# Altium schematic symbol library Manu.SchLib: 66 symbols
Pins are listed as number, name and electrical type; pins without a type are passive.

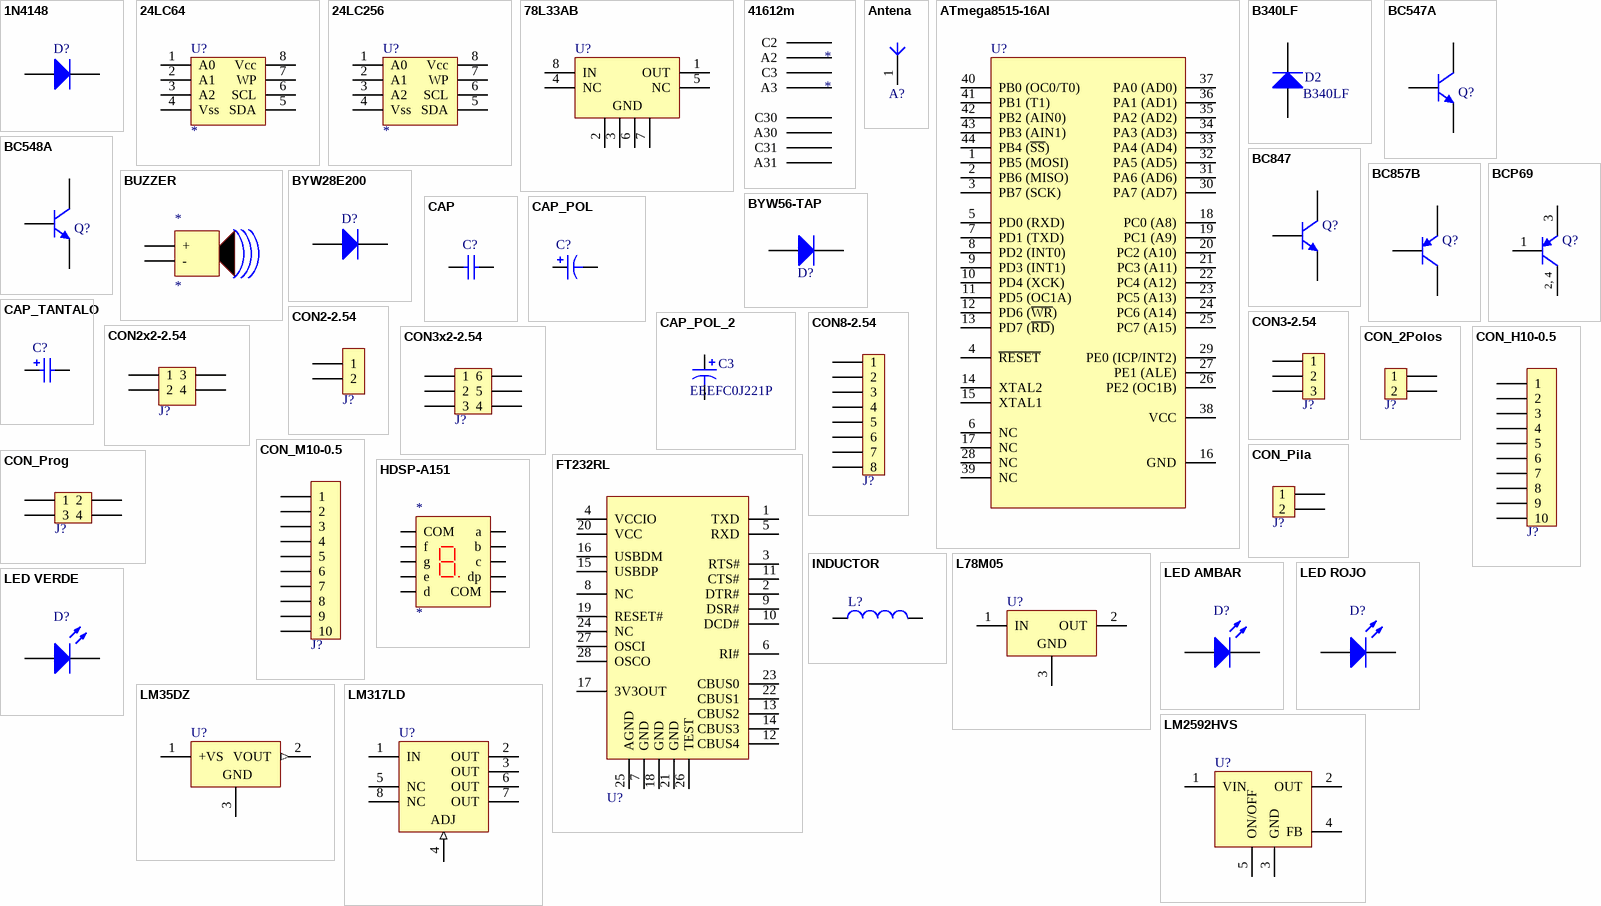
[diagram p0: symbols 1N4148 to LM2592HVS]

## 1N4148
designator D?
High Conductance Fast Diode
simulation model 1N4148 (DIODE)
signal-integrity model 1N4148
footprint DIODO_SMC (Magnetic-Core Inductor with Winding Polarity Marking; 2 Leads)
footprint DO-35 (Diode, Axial; Body 3.8 x 1.9 mm (LxDia. max), Lead Dia. 0.53 mm (max))
footprint Diodo1206 (Tamaño con polaridad 1206)
pins: 1 A, 2 K

## 24LC64
designator U?
24LC64-Memoria I2C Eeprom
footprint soic8
3D model 8SOIC (PCB3D Model)
footprint DFN (8 Patillas)
pins: 1 A0, 2 A1, 3 A2, 4 Vss (power), 5 SDA, 6 SCL, 7 WP, 8 Vcc (power)
1 alternate drawing of the same symbol

## 24LC256
designator U?
24LC256-Memoria I2C Eeprom
3D model 8SOIC (PCB3D Model)
footprint SOIC8 (SOIC, 8-Leads, Body 4.9x3.9mm, Pitch 1.27mm, IPC Medium Density)
pins: 1 A0, 2 A1, 3 A2, 4 Vss (power), 5 SDA, 6 SCL, 7 WP, 8 Vcc (power)
1 alternate drawing of the same symbol

## 78L33AB
designator U?
Positive Voltage Regulator; PackageReference: SO8; PackageDescription: 8-Pin Small Outline Integrated Circuit 1.27 mm Pitch
footprint SOIC8 (SOIC, 8-Leads, Body 4.9x3.9mm, Pitch 1.27mm, IPC Medium Density)
3D model 8SOIC (PCB3D Model)
pins: 1 OUT (power), 2 GND (power), 3 GND (power), 4 NC, 5 NC, 6 GND (power), 7 GND (power), 8 IN (power)

## 41612m
designator *
footprint 41612M_41612M(Primary)
pins: A2, A3, A30, A31, C2, C3, C30, C31

## Antena
designator A?
Antena dielectrica; Published: 8-Jun-2000; LatestRevisionDate: 17-Jul-2002; LatestRevisionNote: Re-released for DXP Platform.; PackageReference: R38; Publisher: Altium Limited
footprint Antena Dielectrica
footprint Antena_PCB (Antena en Pcb)
pins: 1 OSC1

## ATmega8515-16AI
designator U?
8-Bit AVR Microcontroller with 8K Bytes of In-System Programmable Flash Memory; Published: 17-Sep-2003; LatestRevisionDate: 13-Apr-2006; LatestRevisionNote: IPC-7351 Footprint Added.; DatasheetVersion: 2512B-AVR-09/02; PackageVersion: rev.B, Oct-2001; PackageReference: 44A; Publisher: Altium Limited; PackageDescription: 44-Pin Thin Quad Flat Pack 0.8 mm Pitch; ComponentLink1Description: Manufacturer Link; ComponentLink1URL: http://www.atmel.com; ComponentLink2Description: Datasheet; ComponentLink2URL: http://www.atmel.com/dyn/resources/prod_documents/doc2512.pdf
3D model ATMEGA8515-44 (PCB3D Model)
footprint TQFP44 (Thin QFP, 44-Leads, Body 10x10mm, Pitch 0.8mm, IPC High Density)
pins: 1 PB5 (MOSI), 2 PB6 (MISO), 3 PB7 (SCK), 4 ~{RESET}, 5 PD0 (RXD), 6 NC, 7 PD1 (TXD), 8 PD2 (INT0), 9 PD3 (INT1), 10 PD4 (XCK), 11 PD5 (OC1A), 12 PD6 (~{WR}), 13 PD7 (~{RD}), 14 XTAL2, 15 XTAL1, 16 GND, 17 NC, 18 PC0 (A8), 19 PC1 (A9), 20 PC2 (A10), 21 PC3 (A11), 22 PC4 (A12), 23 PC5 (A13), 24 PC6 (A14), 25 PC7 (A15), 26 PE2 (OC1B), 27 PE1 (ALE), 28 NC, 29 PE0 (ICP/INT2), 30 PA7 (AD7), 31 PA6 (AD6), 32 PA5 (AD5), 33 PA4 (AD4), 34 PA3 (AD3), 35 PA2 (AD2), 36 PA1 (AD1), 37 PA0 (AD0), 38 VCC, 39 NC, 40 PB0 (OC0/T0), 41 PB1 (T1), 42 PB2 (AIN0), 43 PB3 (AIN1), 44 PB4 (~{SS})

## B340LF
designator D2
3D model DO214_SMA (PCB3D Model)
footprint B340LF
pins: 1 A, 2 K

## BC547A
designator Q?
Amplifier Transistor NPN Silicon
footprint 29-04 (TO, Flat Index; 3 In-Line, Axial Leads; Body Dia. 4.8mm; Leads 0.48 x 0.5 mm (max))
pins: 1 C, 2 B, 3 E

## BC548A
designator Q?
Amplifier Transistor NPN Silicon
footprint 29-04 (TO, Flat Index; 3 In-Line, Axial Leads; Body Dia. 4.8mm; Leads 0.48 x 0.5 mm (max))
pins: 1 C, 2 B, 3 E

## BC847
designator Q?
NPN General-purpose Transistor; Published: 17-Sep-2003; DatasheetVersion: 4-Feb-2002; PackageVersion: May-1999; PackageReference: SOT23; Publisher: Altium Limited; PackageDescription: SOT-23; 3 Leads; Body 3.0 x 2.5 mm, inc. leads (LxW max); ComponentLink1Description: Manufacturer Link; ComponentLink1URL: http://www.semiconductors.philips.com/; ComponentLink2Description: Datasheet; ComponentLink2URL: http://www.semiconductors.philips.com/acrobat/datasheets/BC846_BC847_BC848_5.pdf
footprint SOT23 (SOT-23; 3 Leads; Body 3.1 x 2.5 mm, inc. leads (LxW max), Alternate Lead Configuration)
pins: 1 B, 2 E, 3 C

## BC857B
designator Q?
PNP General-purpose Transistor; Published: 17-Sep-2003; DatasheetVersion: 4-Feb-2002; PackageVersion: May-1999; PackageReference: SOT23; Publisher: Altium Limited; PackageDescription: SOT-23; 3 Leads; Body 3.0 x 2.5 mm, inc. leads (LxW max); ComponentLink1Description: Manufacturer Link; ComponentLink1URL: http://www.semiconductors.philips.com/; ComponentLink2Description: Datasheet; ComponentLink2URL: http://www.semiconductors.philips.com/acrobat/datasheets/BC856_BC857_BC858_6.pdf
simulation model QBC857B (PNP)
signal-integrity model BC857B
footprint SOT23 (SOT-23; 3 Leads; Body 3.1 x 2.5 mm, inc. leads (LxW max), Alternate Lead Configuration)
pins: 1 B, 2 E, 3 C

## BCP69
designator Q?
PNP Medium Power Transistor; Published: 17-Sep-2003; DatasheetVersion: 8-Apr-1999; PackageVersion: Aug-2001; PackageReference: SOT223; Publisher: Altium Limited; PackageDescription: SOT-223/SC-73; 4 Leads; Body 6.7 x 7.3 mm, inc. leads (LxW max); ComponentLink1Description: Manufacturer Link; ComponentLink1URL: http://www.semiconductors.philips.com/; ComponentLink2Description: Datasheet; ComponentLink2URL: http://www.semiconductors.philips.com/acrobat/datasheets/BCP69_5.pdf
simulation model QBCP69 (PNP)
signal-integrity model BCP69
footprint SOT223 (SOT-223/SC-73; 4 Leads; Body 6.7 x 7.3 mm, inc. leads (LxW max))
pins: 1 B, 2 C, 3 E, 4 C
text: 2, 4

## BUZZER
designator *
footprint Buzzer (Magnetic Transducer Buzzer)
pins: 1 +, 2 -

## BYW28E200
designator D?
Diodo Schottky
footprint AXIAL-0.5 (Semiconductor Resistor; 2 Leads)
pins: 1 A, 2 K

## BYW56-TAP
designator D?
Diodo Schottky
footprint AXIAL-0.4 (Semiconductor Resistor; 2 Leads)
pins: 1 A, 2 K

## CAP
designator C?
Condensador sin polarizar
footprint 1206 (Tamaño 1206)
footprint 0603 (Tamaño 0603)
footprint 0805 (Tamaño 0805)
footprint 0402 (Chip Capacitor; Body 1.0 x 0.5 mm (LxW typ))
pins: 1, 2

## CAP_POL
designator C?
Condensador polarizado(Axial)
footprint CAP200E (5x5mm)
footprint CAP100E (2.5x2.5mm)
pins: 1, 2
1 alternate drawing of the same symbol

## CAP_POL_2
designator C3, comment CAP_POL  (value not drawn)
Condensador polarizado(Axial)
footprint CAP200E (5x5mm)
footprint CAP100E (2.5x2.5mm)
3D model Condensador_Electrolitico (PCB3D Model)
footprint 8.3x8.3 smd Condensador
pins: 1, 2
1 alternate drawing of the same symbol
text: EEEFC0J221P

## CAP_TANTALO
designator C?
CONDENSADOR DE TANTALO
footprint CAJA_A
footprint CAJA_B
footprint CAJA_C
pins: 1, 2
1 alternate drawing of the same symbol

## CON2-2.54
designator J?  (value not drawn)
connectors
footprint CON2-2.54
footprint Interruptor PCB (Interruptor PCB C.F.:3289758)
pins: 1, 2

## CON2x2-2.54
designator J?  (value not drawn)
connectors
footprint CON2x2-2.54
pins: 1, 2, 3, 4

## CON3-2.54
designator J?  (value not drawn)
connectors
footprint CON3-2.54
pins: 1, 2, 3

## CON3x2-2.54
designator J?  (value not drawn)
connectors
footprint CON3x2-2.54
pins: 1, 2, 3, 4, 5, 6

## CON8-2.54
designator J?  (value not drawn)
connectors
footprint RJ45
pins: 1, 2, 3, 4, 5, 6, 7, 8

## CON_2Polos
designator J?  (value not drawn)
connectors
footprint Conector_2Polos (Alimentacion 2 Polos)
pins: 1, 2

## CON_H10-0.5
designator J?, comment CONH10-0.5  (value not drawn)
connector  hembra cinta plana
footprint CON_H10-0.5 (CON10-0.5 hembra cinta plana)
pins: 1, 2, 3, 4, 5, 6, 7, 8, 9, 10

## CON_M10-0.5
designator J?  (value not drawn)
connectors macho cinta plana
footprint CON_M10-0.5 (CON10-0.5 cinta plana)
pins: 1, 2, 3, 4, 5, 6, 7, 8, 9, 10

## CON_Pila
designator J?  (value not drawn)
connectors
footprint PADs_Pila (Alimentacion)
pins: 1, 2

## CON_Prog
designator J?  (value not drawn)
connectors
footprint PADs_Prog (Para programar)
pins: 1, 2, 3, 4

## FT232RL
designator U?  (value not drawn)
FT232RL USB UART I.C.
footprint SSOP28 (SSOP; 28 Leads; Body Width 3.9 mm; Pitch 0.635 mm)
pins: 1 TXD, 2 DTR#, 3 RTS#, 4 VCCIO (power), 5 RXD, 6 RI#, 7 GND, 8 NC, 9 DSR#, 10 DCD#, 11 CTS#, 12 CBUS4, 13 CBUS2, 14 CBUS3, 15 USBDP (power), 16 USBDM, 17 3V3OUT, 18 GND, 19 RESET#, 20 VCC (power), 21 GND, 22 CBUS1, 23 CBUS0, 24 NC, 25 AGND, 26 TEST, 27 OSCI, 28 OSCO
1 alternate drawing of the same symbol

## HDSP-A151
designator *
Display 7- segmentos
footprint 7_segs
pins: 1 COM, 2 f, 3 g, 4 e, 5 d, 6 COM, 7 dp, 8 c, 9 b, 10 a

## INDUCTOR
designator L?
Inductor
footprint TIPO3631 (Footprint para inductor 33uH)
footprint 0402 (Chip Capacitor; Body 1.0 x 0.5 mm (LxW typ))
footprint Bobina pequeña (Bobina VLF4012A)
footprint 6x6 inductor
footprint BOBINA (Bobina DTMC)
footprint Ferrita
pins: 1, 2

## L78M05
designator U?
Precision 500mA Regulator; Note: Tab is connected to pin 3 (GND).; Published: 24-Aug-2001; LatestRevisionDate: 17-Jul-2002; LatestRevisionNote: Re-released for DXP Platform.; DatasheetVersion: Mar-1997; PackageReference: TO220V; Publisher: Altium Limited; PackageDescription: TO, Thru-Hole, Vertical, Heatsink Mounted; 3 In-Line Leads; Pitch 2.54 mm; Pin sequence 1, 3, 2; ComponentLink1Description: Manufacturer Link; ComponentLink1URL: http://www.st.com/; ComponentLink2Description: Datasheet; ComponentLink2URL: http://www.st.com/stonline/products/literature/ds/2147/l78m05ab.pdf
footprint TO220 (TO, Thru-Hole, Vertical, Heatsink Mounted; 3 In-Line Leads; Pitch 2.54 mm; Pin sequence 1, 3, 2)
pins: 1 IN (power), 2 OUT (power), 3 GND (power)

## LED AMBAR
designator D?
Tipico Led Ambar
footprint Diodo0805 (Tamaño con polaridad 0805)
footprint Diodo1206 (Tamaño con polaridad 1206)
footprint Diodo0603 (Tamaño con polaridad 0603)
pins: 1 A, 2 K

## LED ROJO
designator D?
Tipico Led Rojo
footprint Diodo0805 (Tamaño con polaridad 0805)
footprint Diodo1206 (Tamaño con polaridad 1206)
footprint Diodo0603 (Tamaño con polaridad 0603)
footprint led5mm
pins: 1 A, 2 K

## LED VERDE
designator D?
Tipico Led Verde
footprint Diodo0805 (Tamaño con polaridad 0805)
footprint Diodo1206 (Tamaño con polaridad 1206)
footprint Diodo0603 (Tamaño con polaridad 0603)
pins: 1 A, 2 K

## LM35DZ
designator U?
Precision Fahrenheit Temperature Sensor
footprint TO92 (TO, Flat Index; 3 In-Line, Axial Leads; Body Dia. 4.6mm; Leads 0.53 x 0.39 mm (max))
pins: 1 +VS (power), 2 VOUT (out), 3 GND (power)

## LM317LD
designator U?
Low Current 3-Terminal Adjustable Positive Voltage Regulator; Published: 17-Jul-2002; LatestRevisionDate: 13-Apr-2006; LatestRevisionNote: IPC-7351 Footprint Added.; DatasheetVersion: 1988; PackageReference: 751-02; Publisher: Altium Limited; PackageDescription: 8-Pin Small Outline Integrated Circuit 1.27 mm Pitch; Code_JEDEC: MS-012-AA; Code_IPC: SOIC127P600-8; ComponentLink1Description: Manufacturer Link; ComponentLink1URL: http://www.onsemi.com/site/products/taxonomy/0,4438,503,00.html; ComponentLink2Description: Datasheet; ComponentLink2URL: http://www.onsemi.com/pub/Collateral/LM317L-D.PDF
footprint SOIC8 (SOIC, 8-Leads, Body 4.9x3.9mm, Pitch 1.27mm, IPC Medium Density)
3D model 8SO (PCB3D Model)
pins: 1 IN (power), 2 OUT (power), 3 OUT (power), 4 ADJ (in), 5 NC, 6 OUT (power), 7 OUT (power), 8 NC

## LM2592HVS
designator U?  (value not drawn)
LM2592HVS-ADJ Regulador  de tendion Step-Down
footprint to263 (5 lead TO-263)
pins: 1 VIN (power), 2 OUT (power), 3 GND (power), 4 FB (power), 5 ON/OFF

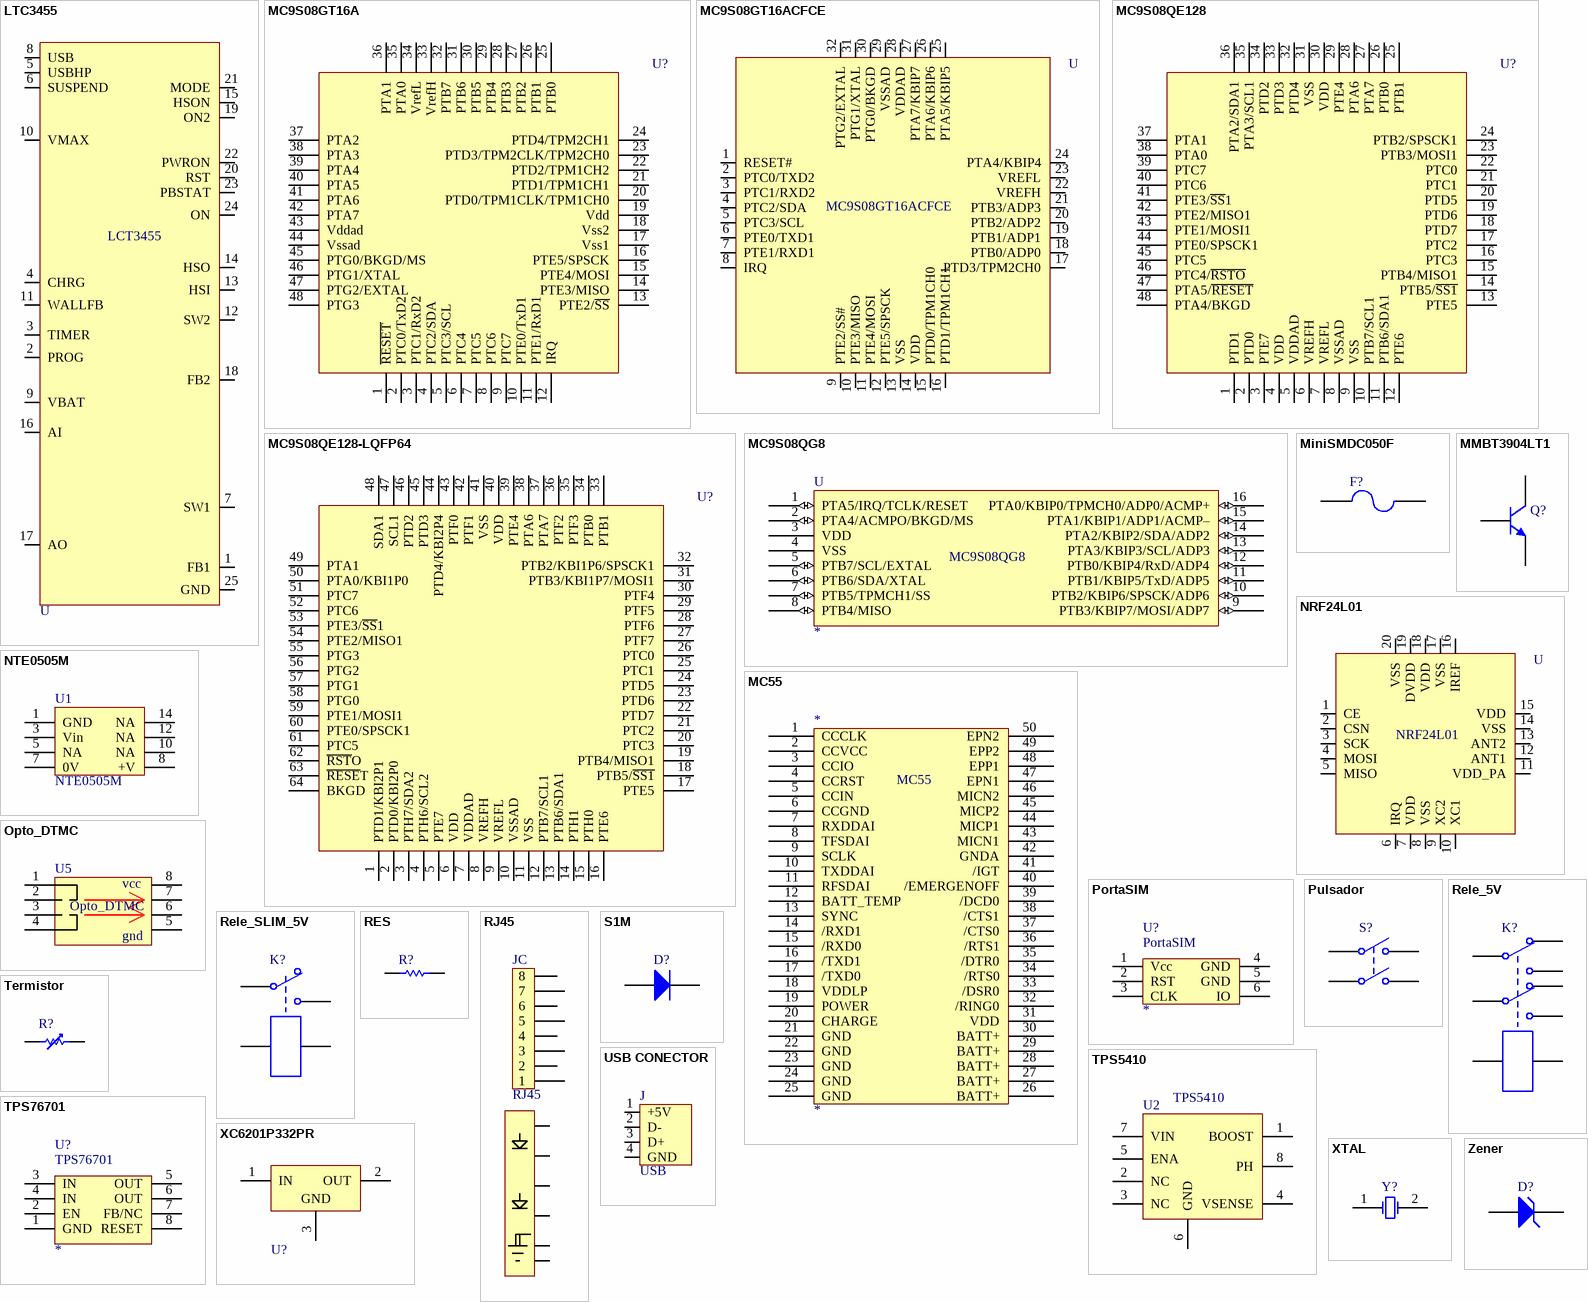
[diagram p1: symbols LTC3455 to Zener]

## LTC3455
designator U, comment DC/DC  (value not drawn)
footprint QFN-24
pins: 1 FB1, 2 PROG, 3 TIMER, 4 CHRG, 5 USBHP, 6 SUSPEND, 7 SW1, 8 USB, 9 VBAT, 10 VMAX, 11 WALLFB, 12 SW2, 13 HSI, 14 HSO, 15 HSON, 16 AI, 17 AO, 18 FB2, 19 ON2, 20 RST, 21 MODE, 22 PWRON, 23 PBSTAT, 24 ON, 25 GND
text: LCT3455

## MC9S08GT16A
designator U?
8-Bit Microcontroller
footprint QFN48 (48-Pin Quad Flat No-Lead 0.5 mm Pitch, IPC High Density)
pins: 1 ~{RESET}, 2 PTC0/TxD2, 3 PTC1/RxD2, 4 PTC2/SDA, 5 PTC3/SCL, 6 PTC4, 7 PTC5, 8 PTC6, 9 PTC7 (power), 10 PTE0/TxD1, 11 PTE1/RxD1, 12 IRQ (power), 13 PTE2/~{SS}, 14 PTE3/MISO, 15 PTE4/MOSI, 16 PTE5/SPSCK, 17 Vss1, 18 Vss2, 19 Vdd, 20 PTD0/TPM1CLK/TPM1CH0, 21 PTD1/TPM1CH1, 22 PTD2/TPM1CH2, 23 PTD3/TPM2CLK/TPM2CH0, 24 PTD4/TPM2CH1, 25 PTB0, 26 PTB1, 27 PTB2, 28 PTB3, 29 PTB4, 30 PTB5, 31 PTB6, 32 PTB7, 33 VrefH, 34 VrefL, 35 PTA0, 36 PTA1, 37 PTA2, 38 PTA3, 39 PTA4, 40 PTA5, 41 PTA6, 42 PTA7, 43 Vddad, 44 Vssad, 45 PTG0/BKGD/MS, 46 PTG1/XTAL, 47 PTG2/EXTAL, 48 PTG3

## MC9S08GT16ACFCE
designator U
footprint QFN32 (32-Pin Quad Flat No-Lead (QFG32) - Pb-Free, IPC Low Density)
pins: 1 RESET#, 2 PTC0/TXD2, 3 PTC1/RXD2, 4 PTC2/SDA, 5 PTC3/SCL, 6 PTE0/TXD1, 7 PTE1/RXD1, 8 IRQ, 9 PTE2/SS#, 10 PTE3/MISO, 11 PTE4/MOSI, 12 PTE5/SPSCK, 13 VSS, 14 VDD, 15 PTD0/TPM1CH0, 16 PTD1/TPM1CH1, 17 PTD3/TPM2CH0, 18 PTB0/ADP0, 19 PTB1/ADP1, 20 PTB2/ADP2, 21 PTB3/ADP3, 22 VREFH, 23 VREFL, 24 PTA4/KBIP4, 25 PTA5/KBIP5, 26 PTA6/KBIP6, 27 PTA7/KBIP7, 28 VDDAD, 29 VSSAD, 30 PTG0/BKGD, 31 PTG1/XTAL, 32 PTG2/EXTAL

## MC9S08QE128
designator U?
8-Bit Microcontroller
footprint QFN48 (48-Pin Quad Flat No-Lead 0.5 mm Pitch, IPC High Density)
pins: 1 PTD1, 2 PTD0, 3 PTE7, 4 VDD, 5 VDDAD, 6 VREFH, 7 VREFL, 8 VSSAD, 9 VSS (power), 10 PTB7/SCL1, 11 PTB6/SDA1, 12 PTE6 (power), 13 PTE5, 14 PTB5/~{SS1}, 15 PTB4/MISO1, 16 PTC3, 17 PTC2, 18 PTD7, 19 PTD6, 20 PTD5, 21 PTC1, 22 PTC0, 23 PTB3/MOSI1, 24 PTB2/SPSCK1, 25 PTB1, 26 PTB0, 27 PTA7, 28 PTA6, 29 PTE4, 30 VDD, 31 VSS, 32 PTD4, 33 PTD3, 34 PTD2, 35 PTA3/SCL1, 36 PTA2/SDA1, 37 PTA1, 38 PTA0, 39 PTC7, 40 PTC6, 41 PTE3/~{SS}1, 42 PTE2/MISO1, 43 PTE1/MOSI1, 44 PTE0/SPSCK1, 45 PTC5, 46 PTC4/~{RSTO}, 47 PTA5/~{RESET}, 48 PTA4/BKGD

## MC9S08QE128-LQFP64
designator U?
8-Bit Microcontroller
footprint LQFP64 (Thin QFP, 64-Leads, Body 10x10mm, Pitch 0.5mm, IPC Medium Density)
pins: 1 PTD1/KBI2P1, 2 PTD0/KBI2P0, 3 PTH7/SDA2, 4 PTH6/SCL2, 5 PTE7, 6 VDD, 7 VDDAD, 8 VREFH, 9 VREFL (power), 10 VSSAD, 11 VSS, 12 PTB7/SCL1 (power), 13 PTB6/SDA1, 14 PTH1, 15 PTH0, 16 PTE6, 17 PTE5, 18 PTB5/~{SS1}, 19 PTB4/MISO1, 20 PTC3, 21 PTC2, 22 PTD7, 23 PTD6, 24 PTD5, 25 PTC1, 26 PTC0, 27 PTF7, 28 PTF6, 29 PTF5, 30 PTF4, 31 PTB3/KBI1P7/MOSI1, 32 PTB2/KBI1P6/SPSCK1, 33 PTB1, 34 PTB0, 35 PTF3, 36 PTF2, 37 PTA7, 38 PTA6, 39 PTE4, 40 VDD, 41 VSS, 42 PTF1, 43 PTF0, 44 PTD4/KBI2P4, 45 PTD3, 46 PTD2, 47 SCL1, 48 SDA1, 49 PTA1, 50 PTA0/KBI1P0, 51 PTC7, 52 PTC6, 53 PTE3/~{SS}1, 54 PTE2/MISO1, 55 PTG3, 56 PTG2, 57 PTG1, 58 PTG0, 59 PTE1/MOSI1, 60 PTE0/SPSCK1, 61 PTC5, 62 ~{RST}O, 63 ~{RESE}T, 64 BKGD

## MC9S08QG8
designator U
8 bit Microcontroller
footprint DIP16 (DIP; 16 Leads; Row Spacing 7.62 mm; Pitch 2.54 mm)
footprint TSSOP16 (Shrink Small Outline; 16 Leads; Body Width 4.4 mm; Pitch 0.65 mm)
pins: 1 PTA5/IRQ/TCLK/RESET (io), 2 PTA4/ACMPO/BKGD/MS (io), 3 VDD (power), 4 VSS (power), 5 PTB7/SCL/EXTAL (io), 6 PTB6/SDA/XTAL (io), 7 PTB5/TPMCH1/SS (io), 8 PTB4/MISO (io), 9 PTB3/KBIP7/MOSI/ADP7 (io), 10 PTB2/KBIP6/SPSCK/ADP6 (io), 11 PTB1/KBIP5/TxD/ADP5 (io), 12 PTB0/KBIP4/RxD/ADP4 (io), 13 PTA3/KBIP3/SCL/ADP3 (io), 14 PTA2/KBIP2/SDA/ADP2 (io), 15 PTA1/KBIP1/ADP1/ACMP– (io), 16 PTA0/KBIP0/TPMCH0/ADP0/ACMP+ (io)

## MC55
designator *
footprint MC55 (Modem MC55)
pins: 1 CCCLK, 2 CCVCC, 3 CCIO, 4 CCRST, 5 CCIN, 6 CCGND, 7 RXDDAI, 8 TFSDAI, 9 SCLK, 10 TXDDAI, 11 RFSDAI, 12 BATT_TEMP, 13 SYNC, 14 /RXD1, 15 /RXD0, 16 /TXD1, 17 /TXD0, 18 VDDLP, 19 POWER, 20 CHARGE, 21 GND (power), 22 GND, 23 GND (power), 24 GND, 25 GND, 26 BATT+ (power), 27 BATT+ (power), 28 BATT+, 29 BATT+ (power), 30 BATT+ (power), 31 VDD, 32 /RING0, 33 /DSR0, 34 /RTS0, 35 /DTR0, 36 /RTS1, 37 /CTS0, 38 /CTS1, 39 /DCD0, 40 /EMERGENOFF, 41 /IGT, 42 GNDA, 43 MICN1, 44 MICP1, 45 MICP2, 46 MICN2, 47 EPN1, 48 EPP1, 49 EPP2, 50 EPN2

## MiniSMDC050F
designator F?
Termistor PTC reseteable 500mA
footprint MiniSMD
pins: 1, 2

## MMBT3904LT1
designator Q?
NPN General-purpose Transistor
footprint SOT23 (SOT-23; 3 Leads; Body 3.1 x 2.5 mm, inc. leads (LxW max), Alternate Lead Configuration)
pins: 1 B, 2 E, 3 C

## NRF24L01
designator U, comment Rf Chipset  (value not drawn)
footprint QFN-20
pins: 1 CE, 2 CSN, 3 SCK, 4 MOSI, 5 MISO, 6 IRQ, 7 VDD, 8 VSS, 9 XC2, 10 XC1, 11 VDD_PA, 12 ANT1, 13 ANT2, 14 VSS, 15 VDD, 16 IREF, 17 VSS, 18 VDD, 19 DVDD, 20 VSS

## NTE0505M
designator U1
DC/DC; Note: Tab is connected to pin 3 (GND).; Published: 24-Aug-2001; LatestRevisionDate: 17-Jul-2002; LatestRevisionNote: Re-released for DXP Platform.; DatasheetVersion: Mar-1997; PackageReference: TO220V; Publisher: Altium Limited; PackageDescription: TO, Thru-Hole, Vertical, Heatsink Mounted; 3 In-Line Leads; Pitch 2.54 mm; Pin sequence 1, 3, 2; ComponentLink1Description: Manufacturer Link; ComponentLink1URL: http://www.st.com/; ComponentLink2Description: Datasheet; ComponentLink2URL: http://www.st.com/stonline/products/literature/ds/2147/l78m05ab.pdf
footprint NTE5050MC (DC/DC)
pins: 1 GND (power), 3 Vin (power), 5 NA (power), 7 0V (power), 8 +V (power), 10 NA (power), 12 NA (power), 14 NA (power)

## Opto_DTMC
designator U5
Optoacoplador DTMC
3D model 8SOIC (PCB3D Model)
footprint 8-SMD (Optoacoplador DTMC)
pins: 1 (power), 2 (power), 3, 4 (power), 5, 6, 7 (power), 8 (power)
1 alternate drawing of the same symbol
text: vcc; gnd

## PortaSIM
designator U?
PortaSim
footprint Portasim
pins: 1 Vcc (power), 2 RST, 3 CLK, 4 GND (power), 5 GND (power), 6 IO
1 alternate drawing of the same symbol

## Pulsador
designator S?
Pulsador
footprint Pulsador (Pulsador 4 patas)
pins: 1 COMMON1, 2 NO1, 3 COMMON2, 4 NO2

## Rele_5V
designator K?
Mini rele 30.22.7.005.0010
simulation model DPDTRELAY (Spice Subcircuit)
footprint minirele (Dual-Pole Dual-Throw Relay; 8 Leads)
pins: 11, 12, 14, 21, 22, 24, A1, A2

## Rele_SLIM_5V
designator K?
Slim PCB Rele
simulation model DPDTRELAY (Spice Subcircuit)
footprint Rele Slim PCB (Rele Slim PCB PCN-105D3MHZ de Tyco)
pins: 11, 14, A1, A2

## RES
designator R?
Resistencia
footprint 1206 (Tamaño 1206)
footprint 0805 (Tamaño 0805)
footprint 0603 (Tamaño 0603)
footprint 100 (100mils)
footprint 200 (200mils)
footprint 2512 (Tamaño 2512)
footprint 0805 (Tamaño 0805)
footprint 0805 (Tamaño 0805)
footprint 0402 (Chip Capacitor; Body 1.0 x 0.5 mm (LxW typ))
pins: 1, 2

## RJ45
designator JC
Conector RJ45
3D model RJ45 (PCB3D Model)
footprint RJ45
pins: 1, 2, 3, 4, 5, 6, 7, 8, 9, 10, 11, 12, 13, 14

## S1M
designator D?
1.0 Ampere General Purpose Rectifier (S1M)
footprint do214 (DO-214-AC/SMA; 2 C-Bend Leads; Body 5.3 x 2.6 mm, inc. leads (LxW))
footprint DO-35 (Diode, Axial; Body 3.8 x 1.9 mm (LxDia. max), Lead Dia. 0.53 mm (max))
pins: 1 A, 2 K

## Termistor
designator R?
Termistor
footprint 100 (100mils)
pins: 1, 2

## TPS5410
designator U2
Switched-Capacitor Voltage Converter; Published: 15-Apr-2002; LatestRevisionDate: 13-Apr-2006; LatestRevisionNote: IPC-7351 Footprint Added.; DatasheetVersion: Jan-1989; PackageVersion: Jan-1998; PackageReference: D008; Publisher: Altium Limited; PackageDescription: 8-Pin Small Outline Integrated Circuit 1.27 mm Pitch; Code_IPC: SOIC127P600-8; ComponentLink1Description: Manufacturer Link; ComponentLink1URL: http://www.ti.com/
3D model D008 (8-Pin Small Outline Integrated Circuit 1.27 mm Pitch)
footprint D008_N (8-Pin Small Outline Integrated Circuit 1.27 mm Pitch, IPC Medium Density)
pins: 1 BOOST, 2 NC, 3 NC, 4 VSENSE (power), 5 ENA (power), 6 GND, 7 VIN, 8 PH (power)

## TPS76701
designator U?
TPS76701- Regulador LDO 1A ADJ
footprint soic8
3D model 8SOIC (PCB3D Model)
pins: 1 GND (power), 2 EN, 3 IN (power), 4 IN (power), 5 OUT (power), 6 OUT (power), 7 FB/NC, 8 RESET
1 alternate drawing of the same symbol

## USB CONECTOR
designator J, comment USB
footprint USB-B
footprint MiniUSB-B
pins: 1 +5V, 2 D-, 3 D+, 4 GND

## XC6201P332PR
designator U?
Regulador 3,3V
footprint SOT89 (SOT-89; Body 4.6 x 4.25 mm, inc. leads (LxW max))
pins: 1 IN (power), 2 OUT (power), 3 GND (power)

## XTAL
designator Y?
Crystal Oscillator; Published: 8-Jun-2000; LatestRevisionDate: 17-Jul-2002; LatestRevisionNote: Re-released for DXP Platform.; PackageReference: R38; Publisher: Altium Limited
footprint hc49
footprint CS10 (Footprint Cristal)
pins: 1 OSC1, 2 OSC2

## Zener
designator D?
Zener Diode
footprint Do214 (DO-214-AC/SMA; 2 C-Bend Leads; Body 5.3 x 2.6 mm, inc. leads (LxW))
pins: 1 A, 2 K